# Altium schematic symbol library SCH - CONNECTORS - 5 PIN.SCHLIB: 1 symbol
Pins are listed as number, name and electrical type; pins without a type are passive.

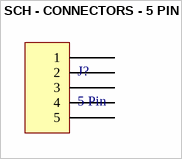
[diagram p0: symbol SCH - CONNECTORS - 5 PIN]

## SCH - CONNECTORS - 5 PIN
designator J?, comment 5 Pin
pins: 1, 2, 3, 4, 5